# Altium schematic symbol library switches.SchLib: 6 symbols
Pins are listed as number, name and electrical type; pins without a type are passive.

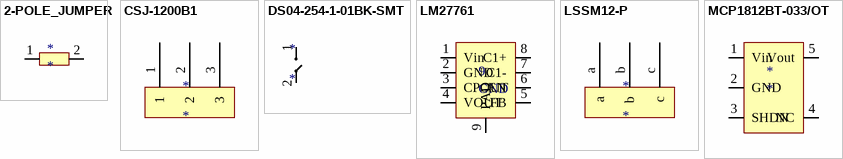
[diagram p0: symbols 2-POLE_JUMPER to MCP1812BT-033/OT]

## 2-POLE_JUMPER
designator *
footprint 2-POLE_JUMPER
pins: 1, 2

## CSJ-1200B1
designator *
footprint CJS-1200B1 (3 pt dip switch, diptronics)
pins: 1, 2, 3

## DS04-254-1-01BK-SMT
designator *
DIP-Schalter / SIP-Schalter 1 Position, Surface Mount, 2.54 mm Pitch, Slide Actuator
footprint DS04-254-1-01BK-SMT (DIP-Schalter / SIP-Schalter 1 Position, Surface Mount, 2.54 mm Pitch, Slide Actuator)
pins: 1, 2

## LM27761
designator 9, comment GND
footprint LM27761 (Negative Voltage source -1.5 to -5V)
pins: 1 Vin, 2 GND, 3 CPOUT, 4 VOUT, 5 FB, 6 EN, 7 C1-, 8 C1+, 9 PAD

## LSSM12-P
designator *
2 position dip switch, Diptronics
footprint LSSM12-P (2 position dip switch, Diptronics)
pins: a, b, c

## MCP1812BT-033/OT
designator *
LDO 3V3
footprint MCP1812BT-033/OT (LDO, 3V3)
pins: 1 Vin, 2 GND, 3 SHDN, 4 NC, 5 Vout